# EAGLE library part MP2359DT (library chip)
MP2359 1.2A, 24V, 1.4MHz Step-Down Converter in a TSOT23-6/SOT23-6
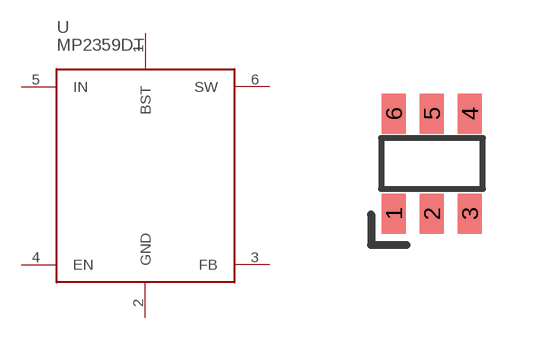
[diagram p8: symbol with the pads of SOT-23-6; footprint SOT-23-6]

Designator prefix U

## MP2359DT  [SOT-23-6]
1  BST  pas
2  GND  pas
3  FB  in
4  EN  in
5  IN  pwr
6  SW  out

## Footprint SOT-23-6 (pad centres in mm)
smd 0.6 x 1: 1 -0.95,-1.25; 2 0,-1.25; 3 0.95,-1.25; 4 0.95,1.25; 5 0,1.25; 6 -0.95,1.25